# Altium schematic symbol library OpBots.SchLib: 1 symbol
Pins are listed as number, name and electrical type; pins without a type are passive.

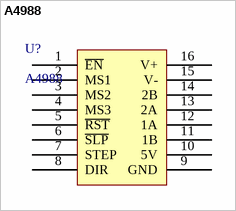
[diagram p0: symbol A4988]

## A4988
designator U?
pins: 1 ~{EN}, 2 MS1, 3 MS2, 4 MS3, 5 ~{RST}, 6 ~{SLP}, 7 STEP, 8 DIR, 9 GND, 10 5V, 11 1B, 12 1A, 13 2A, 14 2B, 15 V-, 16 V+